# EAGLE library part MDSSV-BD04 (library con-yamaichi)
YAMAICHI CONNECTOR
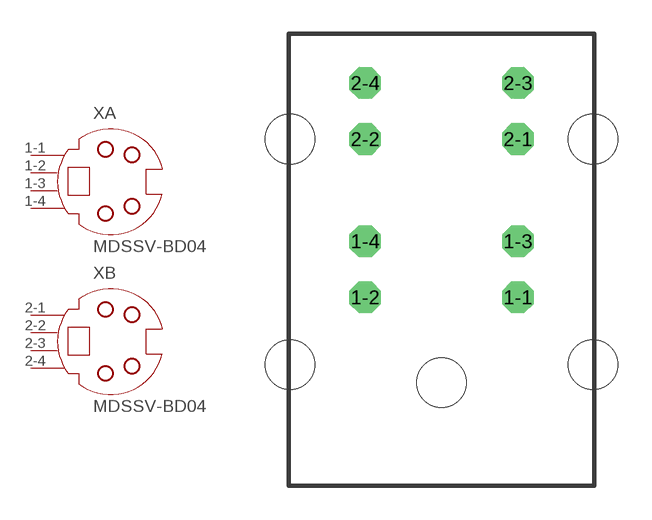
[diagram p14: symbol with the pads of SSV-BD04; footprint SSV-BD04]

Designator prefix X; gates A=SSV-BC04 B=SSV-BC04

## MDSSV-BD04 (OC_FARNELL: unknown; OC_NEWARK: unknown)  [SSV-BD04]
1-1  A:1  pas
1-2  A:2  pas
1-3  A:3  pas
1-4  A:4  pas
2-1  B:1  pas
2-2  B:2  pas
2-3  B:3  pas
2-4  B:4  pas

## Footprint SSV-BD04 (pad centres in mm)
Mini Din YAMAICHI CONNECTOR
drill 0.9 octagon: 1-1 3.4,8.5; 1-2 -3.4,8.5; 1-3 3.4,11; 1-4 -3.4,11; 2-1 3.4,15.55; 2-2 -3.4,15.55; 2-3 3.4,18.05; 2-4 -3.4,18.05
hole 2.2 at -6.75,5.5
hole 2.2 at 0,4.7
hole 2.2 at 6.75,5.5
hole 2.2 at -6.75,15.55
hole 2.2 at 6.75,15.55